# Altium footprint library components.PcbLib: 8 footprints
Each footprint in its own frame and in the unit in brackets; x right, y up, seen from the top. Pads: shape width x height; smd on the part's side, far side on the other; paste and mask are expansions set on the pad; w line width, h text height; cw(c..) or ccw(c..) is an arc to the next point about the centre after c.
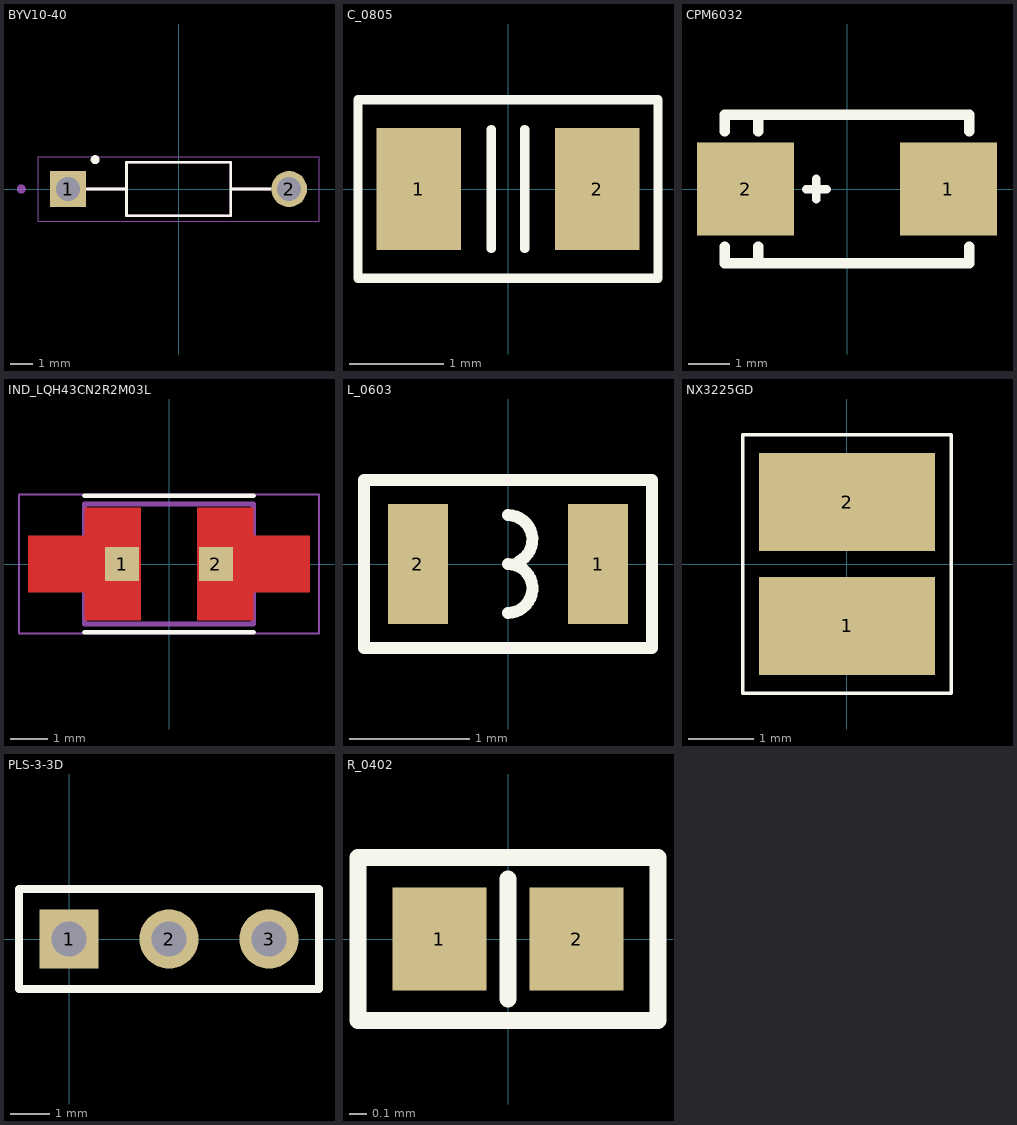
[diagram p0: the footprints below, top view; thin cyan lines are the x and y axes]

## BYV10-40 [mm]
height 2.72
pads (2):
  rect 1.59x1.59 / inner round 1.59 / far side rect 1.59x1.59 hole 1.06: 1(-4.9,0)
  round 1.59 hole 1.06: 2(4.9,0)
Top Overlay:
  circle w0.2: c-3.7,1.3 r0.1
  lines w0.127: -4.065,0 -2.315,0 ; 4.065,0 2.315,0 ; -2.315,0 -2.315,1.188 2.315,1.188 2.315,0 ; -2.315,0 -2.315,-1.188 2.315,-1.188 2.315,0
Mechanical 13:
  circle w0.2: c-6.975,0 r0.1
  lines w0.127: -5.18,0 -2.315,0 ; 5.18,0 2.315,0 ; -2.315,0 -2.315,1.188 2.315,1.188 2.315,0 ; -2.315,0 -2.315,-1.188 2.315,-1.188 2.315,0
Mechanical 15:
  lines w0.05: -6.225,-1.438 6.225,-1.438 6.225,1.438 -6.225,1.438 -6.225,-1.438
3D body "step_temp.STEP": height 2.72, standoff -21.88, extent -5.288,-1.36 5.288,1.36

## C_0805 [mm] "Capacitor Pattern"
height 2.54
pads (2):
  rect 0.9x1.3 smd: 1(-0.95,0) 2(0.95,0)
Top Overlay:
  lines w0.1: -0.178,-0.635 -0.178,0.635 ; 0.178,-0.635 0.178,0.635 ; -1.6,-0.95 1.6,-0.95 1.6,0.95 -1.6,0.95 -1.6,-0.95
3D body "User Library-Chip Cap_MLCC_0805 (2012)_A.step": height 0.6, standoff 0, extent -1,-0.63 1,0.62

## CPM6032 [mm]
height 5.08
pads (2):
  rect 2.35x2.25 smd: 1(2.45,0) 2(-2.45,0)
Top Overlay:
  lines w0.2: -0.99,-0.005 -0.49,-0.005 ; -0.74,-0.255 -0.74,0.245
  lines w0.254: -2.95,-1.4 -2.95,-1.8 2.95,-1.8 2.95,-1.4 ; -2.95,1.4 -2.95,1.8 2.95,1.8 2.95,1.4 ; -2.15,-1.8 -2.15,-1.4 ; -2.15,1.4 -2.15,1.8
3D body "cap_c.step": height 2.51, standoff 0, extent -2.997,-1.6 2.997,1.6

## IND_LQH43CN2R2M03L [mm]
pads (2):
  rect 0.9x0.9 smd paste-1 mask+0: 1(-1.25,0) 2(1.25,0)
Top Layer:
  region: -0.75,-1.5 -2.25,-1.5 -2.25,-0.75 -3.75,-0.75 -3.75,0.75 -2.25,0.75 -2.25,1.5 -0.75,1.5
  region: 2.25,0.75 3.75,0.75 3.75,-0.75 2.25,-0.75 2.25,-1.5 0.75,-1.5 0.75,1.5 2.25,1.5
Top Overlay:
  lines w0.127: -2.25,-1.82 2.25,-1.82 ; -2.25,1.82 2.25,1.82
Top Paste:
  region: -0.75,-1.5 -2.25,-1.5 -2.25,-0.75 -3.75,-0.75 -3.75,0.75 -2.25,0.75 -2.25,1.5 -0.75,1.5
  region: 2.25,0.75 3.75,0.75 3.75,-0.75 2.25,-0.75 2.25,-1.5 0.75,-1.5 0.75,1.5 2.25,1.5
Top Solder:
  region: -0.65,-1.6 -2.35,-1.6 -2.35,-0.85 -3.85,-0.85 -3.85,0.85 -2.35,0.85 -2.35,1.6 -0.65,1.6
  region: 2.35,0.85 3.85,0.85 3.85,-0.85 2.35,-0.85 2.35,-1.6 0.65,-1.6 0.65,1.6 2.35,1.6
Mechanical 13:
  lines w0.127: -2.25,-1.6 2.25,-1.6 2.25,1.6 -2.25,1.6 -2.25,-1.6
Mechanical 15:
  lines w0.05: -4,-1.85 4,-1.85 4,1.85 -4,1.85 -4,-1.85
3D body "step_temp.STEP": height 2.8, standoff 0, extent -2.25,-1.6 2.25,1.6

## L_0603 [mm] "Inductor Pattern"
height 2.54
pads (2):
  rect 0.5x1 smd: 1(0.75,0) 2(-0.75,0)
Top Overlay:
  lines w0.1: 0,-0.406 ccw(c0,-0.203) 0,0 ; 0,0.406 cw(c0,0.203) 0.09,0.021 ; -1.2,-0.7 1.2,-0.7 1.2,0.7 -1.2,0.7 -1.2,-0.7
3D body "p_0603_e_4642_b_n.stp": height 0.45, standoff 0, extent -0.8,-0.394 0.8,0.406

## NX3225GD [mm]
pads (2):
  rect 2.7x1.5 smd: 1(0,-0.95) 2(0,0.95)
Top Overlay:
  lines w0.051: -1.6,-1.981 1.6,-1.981 1.6,1.981 -1.6,1.981 -1.6,-1.981
3D body: height 1, standoff 0, extent -1.25,-1.6 1.25,1.6

## PLS-3-3D [mm] "Connector; Header; 3 Position"
height 7.5
pads (3):
  rect 1.5x1.5 hole 0.9: 1(0,0)
  round 1.5 hole 0.9: 2(2.54,0) 3(5.08,0)
Top Overlay:
  lines w0.2: -1.27,-1.27 6.35,-1.27 6.35,1.27 -1.27,1.27 -1.27,-1.27
3D body "PLS-1.step": height 8.44, standoff -3, extent -1.27,-1.27 1.27,1.27
3D body "PLS-1.step": height 8.44, standoff -3, extent 1.27,-1.27 3.81,1.27
3D body "PLS-1.step": height 8.44, standoff -3, extent 3.81,-1.27 6.35,1.27

## R_0402 [mm]
pads (2):
  rect 0.55x0.6 smd: 1(-0.4,0) 2(0.4,0)
Top Overlay:
  lines w0.1: 0,-0.35 0,0.35 ; -0.875,-0.475 -0.875,0.475 0.875,0.475 0.875,-0.475 -0.875,-0.475
3D body "User Library-0402R.step": height 0.34, standoff 0, extent -0.52,-0.3 0.52,0.3